# Altium integrated library XM125.IntLib: 1 symbol
Pins are listed as number, name and electrical type; pins without a type are passive.

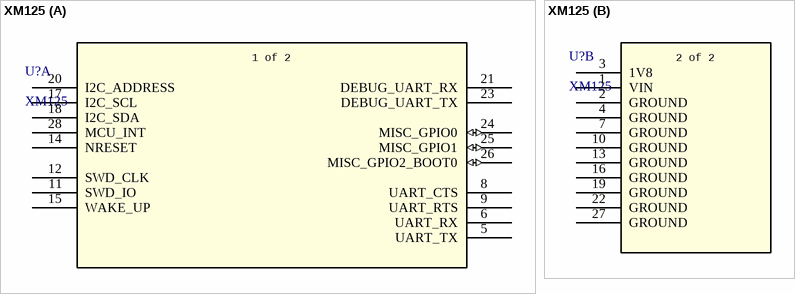
[diagram p0: symbol XM125]

## XM125
designator U?
Description; Manufacturer_Name: Acconeer; Type: RF; Copyright: Copyright (C) 2025 Ultra Librarian. All rights reserved.; Manufacturer_Part_Number: XM125; RefDes: RefDes
footprint XM125_ACC
part A pins: 5 UART_TX, 6 UART_RX, 8 UART_CTS, 9 UART_RTS, 11 SWD_IO, 12 SWD_CLK, 14 NRESET, 15 WAKE_UP, 17 I2C_SCL, 18 I2C_SDA, 20 I2C_ADDRESS, 21 DEBUG_UART_RX, 23 DEBUG_UART_TX, 24 MISC_GPIO0 (io), 25 MISC_GPIO1 (io), 26 MISC_GPIO2_BOOT0 (io), 28 MCU_INT
part B pins: 1 VIN (power), 2 GROUND (power), 3 1V8 (power), 4 GROUND (power), 7 GROUND (power), 10 GROUND (power), 13 GROUND (power), 16 GROUND (power), 19 GROUND (power), 22 GROUND (power), 27 GROUND (power)
part A text: 1 of 2
part B text: 2 of 2